# EAGLE library part ACPL-064L-000E (library SamacSys_Parts)
Optocoupler Logic-Out Totem-Pole DC-IN 2-CH 8-Pin SO Tube Source: Datasheet <https://componentsearchengine.com/Datasheets/2/ACPL-064L-000E.pdf>
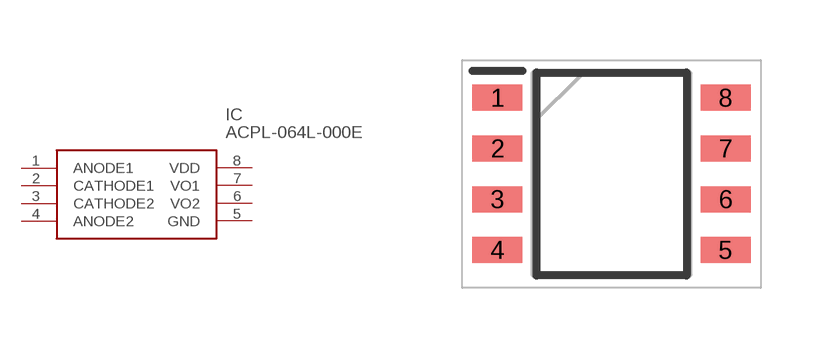
[diagram p0: symbol with the pads of SOIC127P599X330-8N; footprint SOIC127P599X330-8N]

Designator prefix IC

## ACPL-064L-000E (Description: Optocoupler Logic-Out Totem-Pole DC-IN 2-CH 8-Pin SO Tube; Height: 3.302mm; Manufacturer_Name: Avago Technologies; Manufacturer_Part_Number: ACPL-064L-000E; Mouser_Part_Number: 630-ACPL-064L-000E; Mouser_Price-Stock: https://www.mouser.co.uk/ProductDetail/Broadcom-Avago/ACPL-064L-000E?qs=wkD9MMxOM1wwSWmQ1LfSEQ%3D%3D)  [SOIC127P599X330-8N]
1  ANODE1
2  CATHODE1
3  CATHODE2
4  ANODE2
5  GND
6  VO2
7  VO1
8  VDD

## Footprint SOIC127P599X330-8N (pad centres in mm)
SO8-
smd 1.25 x 0.65: 1 -2.85,1.905; 2 -2.85,0.635; 3 -2.85,-0.635; 4 -2.85,-1.905; 5 2.85,-1.905; 6 2.85,-0.635; 7 2.85,0.635; 8 2.85,1.905